# EAGLE library part MAX6819/6820 (library mullac)
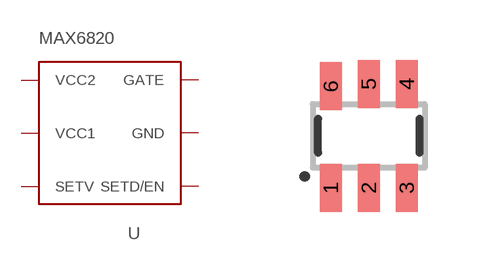
[diagram p17: symbol with the pads of SOT23-6; footprint SOT23-6]

Designator prefix -

## MAX6819/6820SOT23-6  [SOT23-6]
1  VCC2
2  VCC1
3  SETV
4  SETD/EN
5  GND
6  GATE

## Footprint SOT23-6 (pad centres in mm)
Small Outline Transistor
smd 0.55 x 1.2: 1 -0.95,-1.3; 2 0,-1.3; 3 0.95,-1.3; 4 0.95,1.3; 5 0,1.3; 6 -0.95,1.24